# Altium schematic symbol library RCID.SchLib: 17 symbols
Pins are listed as number, name and electrical type; pins without a type are passive.

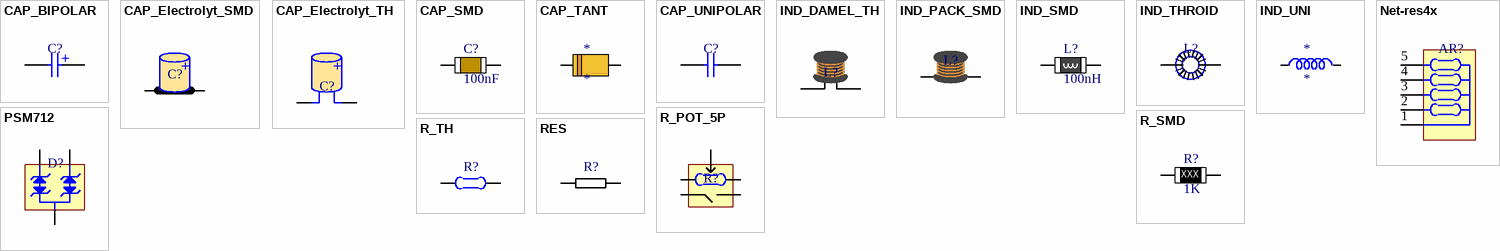
[diagram p0: symbols CAP_BIPOLAR to RES]

## CAP_BIPOLAR
designator C?  (value not drawn)
pins: 1, 2
text: +

## CAP_Electrolyt_SMD
designator C?  (value not drawn)
footprint CAP-SMD_BD4.0-L4.3-W4.3-FD
footprint CAP-SMD_BD5.0-L5.3-W5.3-FD
footprint CAP-SMD_BD6.3-L6.6-W6.6-FD
footprint CAP-SMD_BD8.0-L8.3-W8.3-FD
footprint CAP-SMD_BD10.0-L10.3-W10.3-FD
footprint CAP-SMD_BD12.5-L13.0-W13.0-FD
pins: 1, 2
text: +

## CAP_Electrolyt_TH
designator C?  (value not drawn)
pins: 1, 2
text: +

## CAP_SMD
designator C?, comment 100nF
Value: 100nF
footprint C0603
footprint C0402
footprint C0603
footprint C0805
footprint C1206
footprint C1210
footprint C1812
footprint C2510
footprint C2512
pins: 1, 2

## CAP_TANT
designator *
pins: 1, 2

## CAP_UNIPOLAR
designator C?  (value not drawn)
pins: 1, 2

## IND_DAMEL_TH
designator L?  (value not drawn)
pins: 1, 2

## IND_PACK_SMD
designator L?  (value not drawn)
footprint IND-SMD_L4.3-W4.3
footprint IND-SMD_L5.5-W5.5
footprint IND-SMD_L6.0-W6.0-1
footprint IND-SMD_L7.6-W7.0
footprint IND-SMD_L8.0-W8.0
footprint IND-SMD_L9.0-W9.0
footprint IND-SMD_L10.5-W10.0
footprint IND-SMD_L12.0-W12.0-A
footprint IND-SMD_L12.7-W10.0_SRR1005
pins: 1, 2

## IND_SMD
designator L?, comment 100nH
Value: 100nH
footprint IND0603
footprint IND0402
footprint IND0603
footprint IND0805
footprint IND1206
footprint IND1210
footprint IND1812
footprint IND2510
footprint IND2512
pins: 1, 2

## IND_THROID
designator L?  (value not drawn)
pins: 1, 2

## IND_UNI
designator *
pins: 1, 2

## Net-res4x
designator AR?, comment Array  (value not drawn)
footprint NET4_TH
pins: 1, 2, 3, 4, 5

## PSM712
designator D?  (value not drawn)
footprint SOT-23-3_L2.9-W1.6-P1.90-LS2.8-BR
pins: 1, 2, 3

## R_POT_5P
designator R?, comment R_TH  (value not drawn)
footprint RES-ADJ-TH_BK10
pins: 1, 2, 3, 4, 5

## R_SMD
designator R?, comment 1K
Code: XXX; Tolerance: 5%; EIA-96: 0; Value: 1K
footprint R0201
footprint R0402
footprint R0603
footprint R0805
footprint R1206
footprint R1210
footprint R1812
footprint R2510
footprint R2512
pins: 1, 2

## R_TH
designator R?  (value not drawn)
pins: 1, 2

## RES
designator R?
pins: 1, 2